# Altium footprint library HC-59s.PcbLib: 1 footprints
Each footprint in its own frame and in the unit in brackets; x right, y up, seen from the top. Pads: shape width x height; smd on the part's side, far side on the other; paste and mask are expansions set on the pad; w line width, h text height; cw(c..) or ccw(c..) is an arc to the next point about the centre after c.
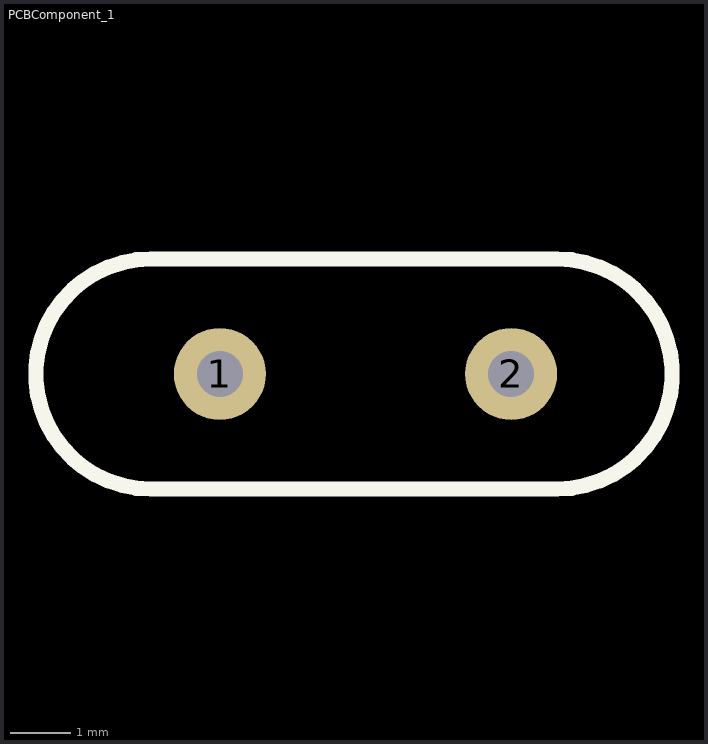
[diagram p0: the footprint, top view; thin cyan lines are the x and y axes]

## PCBComponent_1 [mil]
pads (2):
  round 60 hole 30: 1(-49555,-49550) 2(-49365,-49550)
Top Overlay:
  lines w10: -49600,-49625 cw(c-49600,-49550) -49600,-49475 -49335,-49475 cw(c-49335,-49550) -49335,-49625 -49600,-49625